# Altium schematic symbol library CREE-XP-E2.SchLib: 1 symbol
Pins are listed as number, name and electrical type; pins without a type are passive.

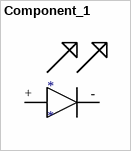
[diagram p0: symbol Component_1]

## Component_1
designator *
footprint XP-E2 (Footprint)
pins: +, -